# Altium schematic symbol library power_12v_5V_3V3.SCHLIB: 8 symbols
Pins are listed as number, name and electrical type; pins without a type are passive.

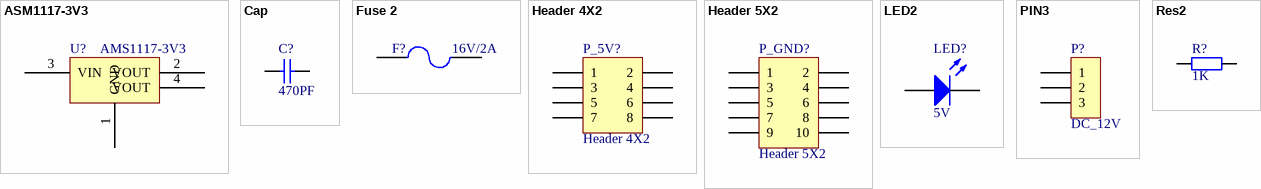
[diagram p0: symbols ASM1117-3V3 to Res2]

## ASM1117-3V3
designator U?, comment AMS1117-3V3
footprint SOT223_M (SOT223, 4-Leads, Body 6.5x3.5mm, Pitch 2.3mm, Lead Span 7mm, IPC Low Density)
pins: 1 GND, 2 VOUT, 3 VIN, 4 VOUT

## Cap
designator C?  (value not drawn)
Capacitor; Published: 8-Jun-2000; LatestRevisionDate: 17-Jul-2002; LatestRevisionNote: Re-released for DXP Platform.; PackageReference: RAD-0.3; Publisher: Altium Limited
simulation model CAP (Capacitor)
signal-integrity model Cap
footprint C 0603_M (无极性贴片电容)
pins: 1, 2
text: 470PF

## Fuse 2
designator F?  (value not drawn)
Fuse; Published: 8-Jun-2000; LatestRevisionDate: 17-Jul-2002; LatestRevisionNote: Re-released for DXP Platform.; PackageReference: PIN-W2/E2.8; Publisher: Altium Limited; PackageDescription: Thru-Hole; 2 Leads
simulation model FUSE (Spice Subcircuit)
footprint FU 1812 (贴片保险丝)
pins: 1, 2
text: 16V/2A

## Header 4X2
designator P_5V?
Header, 4-Pin, Dual row; LatestRevisionDate: 17-Jul-2002; LatestRevisionNote: Re-released for DXP Platform.; Publisher: Altium Limited
signal-integrity model Connector
footprint HDR2.54-LI-2x4P (双排排针，4x2脚)
pins: 1, 2, 3, 4, 5, 6, 7, 8

## Header 5X2
designator P_GND?
Header, 5-Pin, Dual row; LatestRevisionDate: 17-Jul-2002; LatestRevisionNote: Re-released for DXP Platform.; Publisher: Altium Limited
signal-integrity model Connector
footprint HDR2.54-LI-2x5P (双排排针，5x2脚)
pins: 1, 2, 3, 4, 5, 6, 7, 8, 9, 10

## LED2
designator LED?, comment 5V
Typical RED, GREEN, YELLOW, AMBER GaAs LED; Published: 8-Jun-2000; LatestRevisionDate: 17-Jul-2002; LatestRevisionNote: Re-released for DXP Platform.; PackageDocument: Feb-2002; PackageReference: 3.2X1.6X1.1; Publisher: Altium Limited
footprint LED 0603Y (黄色0603LED)
pins: 1 A, 2 K
2 alternate drawings of the same symbol

## PIN3
designator P?, comment DC_12V
footprint DC-5MM
pins: 1, 2, 3

## Res2
designator R?, comment 1K
Resistor; Published: 8-Jun-2000; LatestRevisionDate: 17-Jul-2002; LatestRevisionNote: Re-released for DXP Platform.; PackageReference: AXIAL-0.4; Publisher: Altium Limited
footprint R 0603-HP_M (1/10W高精度贴片电阻)
pins: 1, 2
2 alternate drawings of the same symbol